# Altium footprint library halo_dc21.PcbLib: 2 footprints
Each footprint in its own frame and in the unit in brackets; x right, y up, seen from the top. Pads: shape width x height; smd on the part's side, far side on the other; paste and mask are expansions set on the pad; w line width, h text height; cw(c..) or ccw(c..) is an arc to the next point about the centre after c.
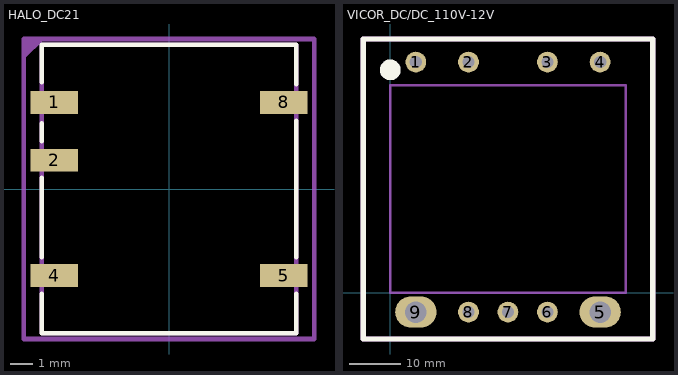
[diagram p0: the footprints below, top view; thin cyan lines are the x and y axes]

## HALO_DC21 [mm]
pads (5):
  rect 2.1x1 smd: 1(-5.05,3.81) 2(-5.05,1.27) 4(-5.05,-3.81) 5(5.05,-3.81) 8(5.05,3.81)
Top Overlay:
  lines w0.2: -5.6,-4.6 -5.6,-6.35 5.6,-6.35 5.6,-4.6 ; -5.6,-3 -5.6,0.5 ; -5.6,2.1 -5.6,2.9 ; -5.6,4.7 -5.6,6.35 5.6,6.35 5.6,4.6 ; 5.6,-3 5.6,3
Top 3D Body:
  lines w0.2: -5.6,-6.35 5.6,-6.35 5.6,6.35 -5.6,6.35 -5.6,-6.35
Top Courtyard:
  region: -6.4,6.6 -5.5,6.6 -6.4,5.7
  lines w0.2: -6.4,-6.6 6.4,-6.6 6.4,6.6 -6.4,6.6 -6.4,-6.6
Top Designator (Mech17):
  text ".Designator" at -1.35,-0.25 h0.6
3D body "DC21-V0505SLF.step": height 7.25, standoff 0, extent -5.7,-6.35 5.7,6.35

## VICOR_DC/DC_110V-12V [mm] "Long Style"
pads (9):
  round 4 hole 2.39: 1(4.95,44.51) 2(15.11,44.51) 3(30.35,44.51) 4(40.51,44.51) 6(30.35,-3.748) 7(22.73,-3.748) 8(15.11,-3.75)
  oval 8x6 hole 4.16: 5(40.51,-3.75) 9(4.95,-3.75)
Top Overlay:
  circle w2: c0,43 r1
  lines w1: -5.205,-8.955 50.675,-8.955 50.675,48.955 -5.205,48.955 -5.205,-8.955
Top 3D Body:
  lines w0.5: 0,0 45.47,0 45.47,40.04 0,40.04 0,0
Top Courtyard:
  lines w1: -5.205,-8.955 -5.205,48.955 50.675,48.955 50.675,-8.955 -5.205,-8.955
3D body: height 13.5, standoff 0, extent 0,0.04 45.47,40.04